# Altium footprint library Nexperia_PMEG2005EB.PcbLib: 1 footprints
Each footprint in its own frame and in the unit in brackets; x right, y up, seen from the top. Pads: shape width x height; smd on the part's side, far side on the other; paste and mask are expansions set on the pad; w line width, h text height; cw(c..) or ccw(c..) is an arc to the next point about the centre after c.
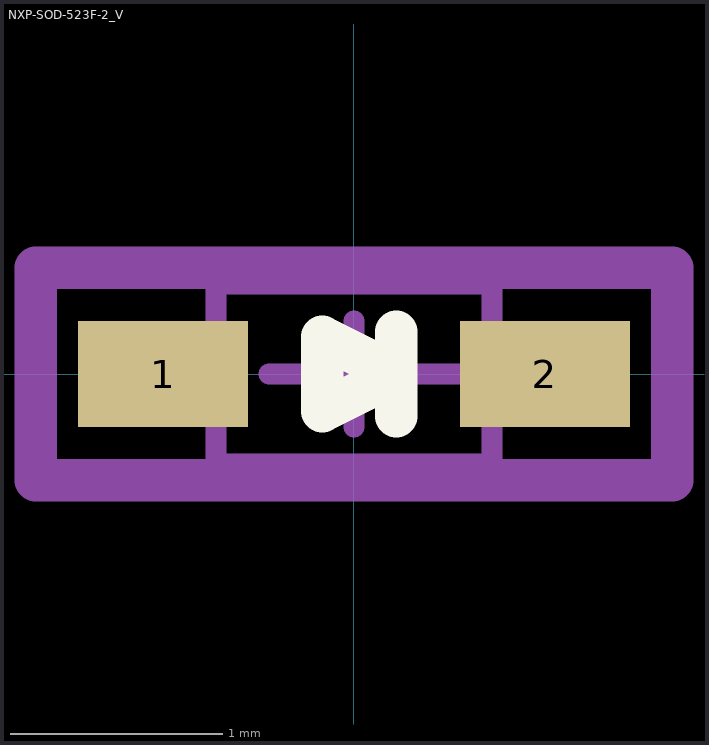
[diagram p0: the footprint, top view; thin cyan lines are the x and y axes]

## NXP-SOD-523F-2_V [mm] "SMD, 2-Leads, Body 1.2x0.8mm, Height 0.7mm"
height 0.7
pads (2):
  rect 0.8x0.5 smd: 1(-0.9,0) 2(0.9,0)
Top Overlay:
  lines w0.2: 0.2,-0.2 0.2,0.2 ; -0.15,-0.175 -0.15,0.175 0.2,0 -0.15,-0.175
Mechanical 10 (Mech10):
  lines w0.2: -1.5,-0.5 1.5,-0.5 1.5,0.5 -1.5,0.5 -1.5,-0.5
  text "'.Designator'" at 0,0 h0.8
Mechanical 13:
  lines w0.1: -0.65,-0.425 -0.65,0.425 0.65,0.425 0.65,-0.425 -0.65,-0.425
Mechanical 15:
  lines w0.05: -1.5,-0.5 1.5,-0.5 1.5,0.5 -1.5,0.5 -1.5,-0.5
  lines w0.1: -0.4,0 0.6,0 ; -0.25,0 0.25,0 ; 0,-0.25 0,0.25
3D body "SOD523F.STEP": height 0.65, standoff 0, extent -0.8,-0.4 0.8,0.4